# EAGLE library part 8PIN_RELIMATE_CONNECTOR (library AB_RELIMATE_CONNECTORS)
RELIMATE CONNECTOR Created by Aadesh Borate PITCH = 2.54 mm
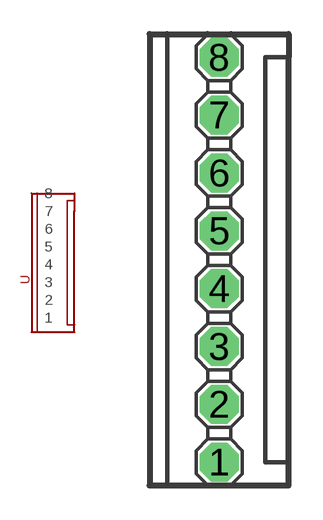
[diagram p2: symbol with the pads of 8PIN_RELIMATE_CONNECTOR; footprint 8PIN_RELIMATE_CONNECTOR]

Designator prefix -

## 8PIN_RELIMATE_CONNECTOR  [8PIN_RELIMATE_CONNECTOR]
1  1
2  2
3  3
4  4
5  5
6  6
7  7
8  8

## Footprint 8PIN_RELIMATE_CONNECTOR (pad centres in mm)
RELIMATE CONNECTOR Created by Aadesh Borate PITCH = 2.54 mm
drill 1.143 octagon: 1 -1.27,-8.89; 2 -1.27,-6.35; 3 -1.27,-3.81; 4 -1.27,-1.27; 5 -1.27,1.27; 6 -1.27,3.81; 7 -1.27,6.35; 8 -1.27,8.89